# EAGLE library part LA-401*D (library led-7-segment_2)
Single Digit LED Numeric Display (anode common) Source: ROHM .. la-1401dn.pdf
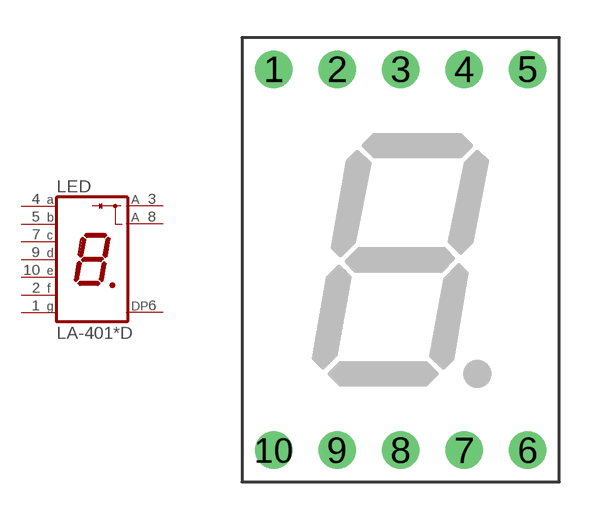
[diagram p0: symbol with the pads of LA-401; footprint LA-401]

Designator prefix LED

## LA-401AD, LA-401BD, LA-401ED, LA-401MD, LA-401VD, LA-401XD  [LA-401]
1  G  pas
2  F  pas
3  A  pas
4  A  pas
5  B  pas
6  DP  pas
7  C  pas
8  A  pas
9  D  pas
10  E  pas

## Footprint LA-401 (pad centres in mm)
Single Digit LED Numeric Display 10.16 mm Source: ROHM .. la-401dn.pdf
drill 0.9 pad 1.5: 1 -2.54,7.62; 2 0,7.62; 3 2.54,7.62; 4 5.08,7.62; 5 7.62,7.62; 6 7.62,-7.62; 7 5.08,-7.62; 8 2.54,-7.62; 9 0,-7.62; 10 -2.54,-7.62